# Altium schematic symbol library DM3D-SF.SchLib: 1 symbol
Pins are listed as number, name and electrical type; pins without a type are passive.

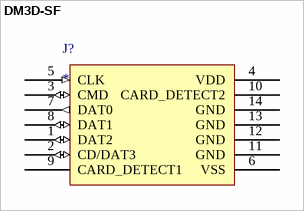
[diagram p0: symbol DM3D-SF]

## DM3D-SF
designator J?
DM3D-SF Micro-SD Card Push-Pull
pins: 1 DAT2 (io), 2 CD/DAT3 (io), 3 CMD (io), 4 VDD (power), 5 CLK (in), 6 VSS (power), 7 DAT0 (out), 8 DAT1 (io), 9 CARD_DETECT1, 10 CARD_DETECT2, 11 GND (power), 12 GND (power), 13 GND (power), 14 GND (power)